# Altium footprint library Trimmer.PcbLib: 1 footprints
Each footprint in its own frame and in the unit in brackets; x right, y up, seen from the top. Pads: shape width x height; smd on the part's side, far side on the other; paste and mask are expansions set on the pad; w line width, h text height; cw(c..) or ccw(c..) is an arc to the next point about the centre after c.
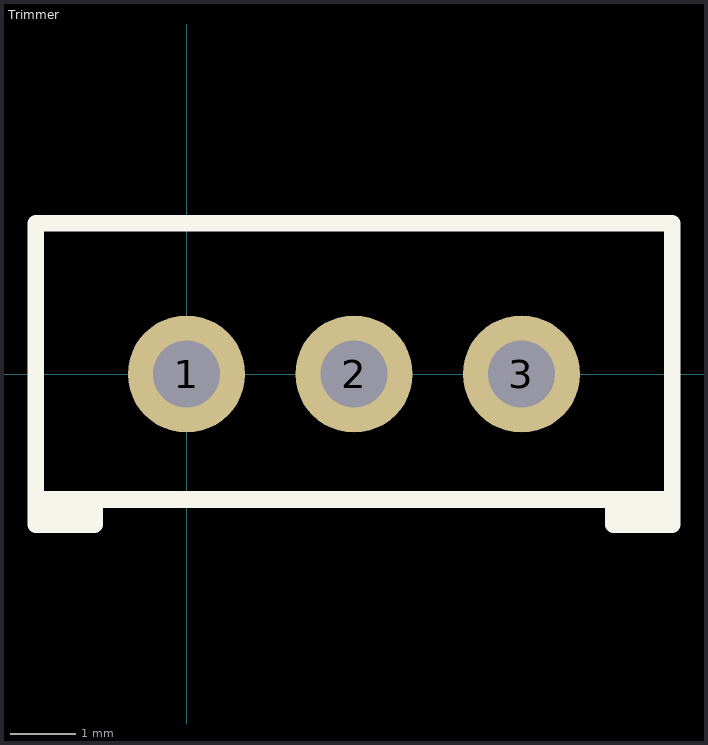
[diagram p0: the footprint, top view; thin cyan lines are the x and y axes]

## Trimmer [mil]
pads (3):
  round 70 hole 40: 1(0,0) 2(100,0) 3(200,0)
Top Overlay:
  lines w10: -87.5,-82.5 -85,-85 -55,-85 ; -55,-80 -55,-90 -90,-90 ; 255,-80 255,-90 290,-90 ; 257.5,-82.5 290,-82.5 ; -90,-90 -90,90 290,90 290,-90 ; -90,-90 -90,-75 290,-75 290,-90
3D body: height 454.72, standoff -62.99, extent -87.59,-94.48 287.6,94.5